# Altium footprint library con-amp-micromatch.PCBLIB: 9 footprints
Each footprint in its own frame and in the unit in brackets; x right, y up, seen from the top. Pads: shape width x height; smd on the part's side, far side on the other; paste and mask are expansions set on the pad; w line width, h text height; cw(c..) or ccw(c..) is an arc to the next point about the centre after c.
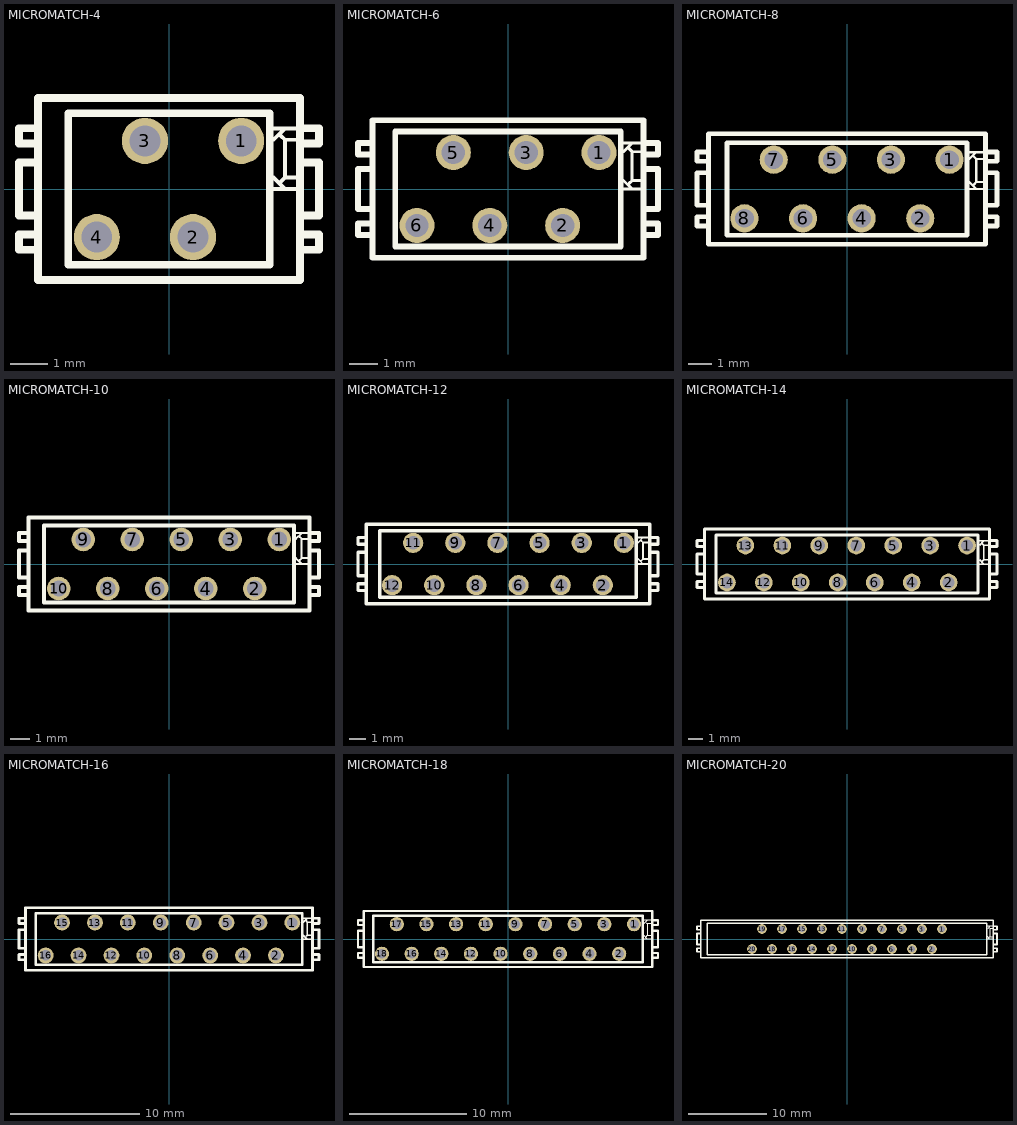
[diagram p0: the footprints below, top view; thin cyan lines are the x and y axes]

## MICROMATCH-4 [mil]
pads (4):
  round 48 hole 32: 1(75,50) 2(25,-50) 3(-25,50) 4(-75,-50)
Top Overlay:
  lines w4: 108.66,0 120.47,0 ; 108.66,11.81 120.47,0 ; 108.66,51.18 120.47,62.99 ; 108.66,62.99 120.47,62.99 ; 116.54,7.87 120.47,11.81 ; 116.54,55.12 120.47,51.18 ; 132.28,0 120.47,0 ; 132.28,11.81 120.47,11.81 ; 132.28,51.18 120.47,51.18 ; 132.28,62.99 120.47,62.99 ; 120.47,11.81 120.47,51.18
  lines w8: -140.16,-62.99 -155.91,-62.99 -155.91,-47.24 -140.16,-47.24 ; -140.16,-27.56 -155.91,-27.56 -155.91,27.56 -140.16,27.56 ; -140.16,47.24 -155.91,47.24 -155.91,62.99 -140.16,62.99 ; 140.16,-62.99 155.91,-62.99 155.91,-47.24 140.16,-47.24 ; 140.16,-27.56 155.91,-27.56 155.91,27.56 140.16,27.56 ; 140.16,47.24 155.91,47.24 155.91,62.99 140.16,62.99 ; -136.22,-94.49 -136.22,94.49 136.22,94.49 136.22,-94.49 -136.22,-94.49 ; -104.72,-78.74 -104.72,78.74 104.72,78.74 104.72,-78.74 -104.72,-78.74

## MICROMATCH-6 [mil]
pads (6):
  round 48 hole 32: 1(125,50) 2(75,-50) 3(25,50) 4(-25,-50) 5(-75,50) 6(-125,-50)
Top Overlay:
  lines w4: 158.66,0 170.47,0 ; 158.66,11.81 170.47,0 ; 158.66,51.18 170.47,62.99 ; 158.66,62.99 170.47,62.99 ; 166.54,7.87 170.47,11.81 ; 166.54,55.12 170.47,51.18 ; 182.28,0 170.47,0 ; 182.28,11.81 170.47,11.81 ; 182.28,51.18 170.47,51.18 ; 182.28,62.99 170.47,62.99 ; 170.47,11.81 170.47,51.18
  lines w8: -190.16,-62.99 -205.91,-62.99 -205.91,-47.24 -190.16,-47.24 ; -190.16,-27.56 -205.91,-27.56 -205.91,27.56 -190.16,27.56 ; -190.16,47.24 -205.91,47.24 -205.91,62.99 -190.16,62.99 ; 190.16,-62.99 205.91,-62.99 205.91,-47.24 190.16,-47.24 ; 190.16,-27.56 205.91,-27.56 205.91,27.56 190.16,27.56 ; 190.16,47.24 205.91,47.24 205.91,62.99 190.16,62.99 ; -186.22,-94.49 -186.22,94.49 186.22,94.49 186.22,-94.49 -186.22,-94.49 ; -154.72,-78.74 -154.72,78.74 154.72,78.74 154.72,-78.74 -154.72,-78.74

## MICROMATCH-8 [mil]
pads (8):
  round 48 hole 32: 1(175,50) 2(125,-50) 3(75,50) 4(25,-50) 5(-25,50) 6(-75,-50) 7(-125,50) 8(-175,-50)
Top Overlay:
  lines w4: 208.66,0 220.47,0 ; 208.66,11.81 220.47,0 ; 208.66,51.18 220.47,62.99 ; 208.66,62.99 220.47,62.99 ; 216.54,7.87 220.47,11.81 ; 216.54,55.12 220.47,51.18 ; 232.28,0 220.47,0 ; 232.28,11.81 220.47,11.81 ; 232.28,51.18 220.47,51.18 ; 232.28,62.99 220.47,62.99 ; 220.47,11.81 220.47,51.18
  lines w8: -240.16,-62.99 -255.91,-62.99 -255.91,-47.24 -240.16,-47.24 ; -240.16,-27.56 -255.91,-27.56 -255.91,27.56 -240.16,27.56 ; -240.16,47.24 -255.91,47.24 -255.91,62.99 -240.16,62.99 ; 240.16,-62.99 255.91,-62.99 255.91,-47.24 240.16,-47.24 ; 240.16,-27.56 255.91,-27.56 255.91,27.56 240.16,27.56 ; 240.16,47.24 255.91,47.24 255.91,62.99 240.16,62.99 ; -236.22,-94.49 -236.22,94.49 236.22,94.49 236.22,-94.49 -236.22,-94.49 ; -204.72,-78.74 -204.72,78.74 204.72,78.74 204.72,-78.74 -204.72,-78.74

## MICROMATCH-10 [mil]
pads (10):
  round 48 hole 32: 1(225,50) 2(175,-50) 3(125,50) 4(75,-50) 5(25,50) 6(-25,-50) 7(-75,50) 8(-125,-50) 9(-175,50) 10(-225,-50)
Top Overlay:
  lines w4: 258.66,0 270.47,0 ; 258.66,11.81 270.47,0 ; 258.66,51.18 270.47,62.99 ; 258.66,62.99 270.47,62.99 ; 266.54,7.87 270.47,11.81 ; 266.54,55.12 270.47,51.18 ; 282.28,0 270.47,0 ; 282.28,11.81 270.47,11.81 ; 282.28,51.18 270.47,51.18 ; 282.28,62.99 270.47,62.99 ; 270.47,11.81 270.47,51.18
  lines w8: -290.16,-62.99 -305.91,-62.99 -305.91,-47.24 -290.16,-47.24 ; -290.16,-27.56 -305.91,-27.56 -305.91,27.56 -290.16,27.56 ; -290.16,47.24 -305.91,47.24 -305.91,62.99 -290.16,62.99 ; 290.16,-62.99 305.91,-62.99 305.91,-47.24 290.16,-47.24 ; 290.16,-27.56 305.91,-27.56 305.91,27.56 290.16,27.56 ; 290.16,47.24 305.91,47.24 305.91,62.99 290.16,62.99 ; -286.22,-94.49 -286.22,94.49 286.22,94.49 286.22,-94.49 -286.22,-94.49 ; -254.72,-78.74 -254.72,78.74 254.72,78.74 254.72,-78.74 -254.72,-78.74

## MICROMATCH-12 [mil]
pads (12):
  round 48 hole 32: 1(275,50) 2(225,-50) 3(175,50) 4(125,-50) 5(75,50) 6(25,-50) 7(-25,50) 8(-75,-50) 9(-125,50) 10(-175,-50) 11(-225,50) 12(-275,-50)
Top Overlay:
  lines w4: 308.66,0 320.47,0 ; 308.66,11.81 320.47,0 ; 308.66,51.18 320.47,62.99 ; 308.66,62.99 320.47,62.99 ; 316.54,7.87 320.47,11.81 ; 316.54,55.12 320.47,51.18 ; 332.28,0 320.47,0 ; 332.28,11.81 320.47,11.81 ; 332.28,51.18 320.47,51.18 ; 332.28,62.99 320.47,62.99 ; 320.47,11.81 320.47,51.18
  lines w8: -340.16,-62.99 -355.91,-62.99 -355.91,-47.24 -340.16,-47.24 ; -340.16,-27.56 -355.91,-27.56 -355.91,27.56 -340.16,27.56 ; -340.16,47.24 -355.91,47.24 -355.91,62.99 -340.16,62.99 ; 340.16,-62.99 355.91,-62.99 355.91,-47.24 340.16,-47.24 ; 340.16,-27.56 355.91,-27.56 355.91,27.56 340.16,27.56 ; 340.16,47.24 355.91,47.24 355.91,62.99 340.16,62.99 ; -336.22,-94.49 -336.22,94.49 336.22,94.49 336.22,-94.49 -336.22,-94.49 ; -304.72,-78.74 -304.72,78.74 304.72,78.74 304.72,-78.74 -304.72,-78.74

## MICROMATCH-14 [mil]
pads (14):
  round 48 hole 32: 1(325,50) 2(275,-50) 3(225,50) 4(175,-50) 5(125,50) 6(75,-50) 7(25,50) 8(-25,-50) 9(-75,50) 10(-125,-50) 11(-175,50) 12(-225,-50) 13(-275,50) 14(-325,-50)
Top Overlay:
  lines w4: 358.66,0 370.47,0 ; 358.66,11.81 370.47,0 ; 358.66,51.18 370.47,62.99 ; 358.66,62.99 370.47,62.99 ; 366.54,7.87 370.47,11.81 ; 366.54,55.12 370.47,51.18 ; 382.28,0 370.47,0 ; 382.28,11.81 370.47,11.81 ; 382.28,51.18 370.47,51.18 ; 382.28,62.99 370.47,62.99 ; 370.47,11.81 370.47,51.18
  lines w8: -390.16,-62.99 -405.91,-62.99 -405.91,-47.24 -390.16,-47.24 ; -390.16,-27.56 -405.91,-27.56 -405.91,27.56 -390.16,27.56 ; -390.16,47.24 -405.91,47.24 -405.91,62.99 -390.16,62.99 ; 390.16,-62.99 405.91,-62.99 405.91,-47.24 390.16,-47.24 ; 390.16,-27.56 405.91,-27.56 405.91,27.56 390.16,27.56 ; 390.16,47.24 405.91,47.24 405.91,62.99 390.16,62.99 ; -386.22,-94.49 -386.22,94.49 386.22,94.49 386.22,-94.49 -386.22,-94.49 ; -354.72,-78.74 -354.72,78.74 354.72,78.74 354.72,-78.74 -354.72,-78.74

## MICROMATCH-16 [mil]
pads (16):
  round 48 hole 32: 1(375,50) 2(325,-50) 3(275,50) 4(225,-50) 5(175,50) 6(125,-50) 7(75,50) 8(25,-50) 9(-25,50) 10(-75,-50) 11(-125,50) 12(-175,-50) 13(-225,50) 14(-275,-50) 15(-325,50) 16(-375,-50)
Top Overlay:
  lines w4: 408.66,0 420.47,0 ; 408.66,11.81 420.47,0 ; 408.66,51.18 420.47,62.99 ; 408.66,62.99 420.47,62.99 ; 416.54,7.87 420.47,11.81 ; 416.54,55.12 420.47,51.18 ; 432.28,0 420.47,0 ; 432.28,11.81 420.47,11.81 ; 432.28,51.18 420.47,51.18 ; 432.28,62.99 420.47,62.99 ; 420.47,11.81 420.47,51.18
  lines w8: -440.16,-62.99 -455.91,-62.99 -455.91,-47.24 -440.16,-47.24 ; -440.16,-27.56 -455.91,-27.56 -455.91,27.56 -440.16,27.56 ; -440.16,47.24 -455.91,47.24 -455.91,62.99 -440.16,62.99 ; 440.16,-62.99 455.91,-62.99 455.91,-47.24 440.16,-47.24 ; 440.16,-27.56 455.91,-27.56 455.91,27.56 440.16,27.56 ; 440.16,47.24 455.91,47.24 455.91,62.99 440.16,62.99 ; -436.22,-94.49 -436.22,94.49 436.22,94.49 436.22,-94.49 -436.22,-94.49 ; -404.72,-78.74 -404.72,78.74 404.72,78.74 404.72,-78.74 -404.72,-78.74

## MICROMATCH-18 [mil]
pads (18):
  round 48 hole 32: 1(425,50) 2(375,-50) 3(325,50) 4(275,-50) 5(225,50) 6(175,-50) 7(125,50) 8(75,-50) 9(25,50) 10(-25,-50) 11(-75,50) 12(-125,-50) 13(-175,50) 14(-225,-50) 15(-275,50) 16(-325,-50) 17(-375,50) 18(-425,-50)
Top Overlay:
  lines w4: 458.66,0 470.47,0 ; 458.66,11.81 470.47,0 ; 458.66,51.18 470.47,62.99 ; 458.66,62.99 470.47,62.99 ; 466.54,7.87 470.47,11.81 ; 466.54,55.12 470.47,51.18 ; 482.28,0 470.47,0 ; 482.28,11.81 470.47,11.81 ; 482.28,51.18 470.47,51.18 ; 482.28,62.99 470.47,62.99 ; 470.47,11.81 470.47,51.18
  lines w8: -490.16,-62.99 -505.91,-62.99 -505.91,-47.24 -490.16,-47.24 ; -490.16,-27.56 -505.91,-27.56 -505.91,27.56 -490.16,27.56 ; -490.16,47.24 -505.91,47.24 -505.91,62.99 -490.16,62.99 ; 490.16,-62.99 505.91,-62.99 505.91,-47.24 490.16,-47.24 ; 490.16,-27.56 505.91,-27.56 505.91,27.56 490.16,27.56 ; 490.16,47.24 505.91,47.24 505.91,62.99 490.16,62.99 ; -486.22,-94.49 -486.22,94.49 486.22,94.49 486.22,-94.49 -486.22,-94.49 ; -454.72,-78.74 -454.72,78.74 454.72,78.74 454.72,-78.74 -454.72,-78.74

## MICROMATCH-20 [mil]
pads (20):
  round 48 hole 32: 1(475,50) 2(425,-50) 3(375,50) 4(325,-50) 5(275,50) 6(225,-50) 7(175,50) 8(125,-50) 9(75,50) 10(25,-50) 11(-25,50) 12(-75,-50) 13(-125,50) 14(-175,-50) 15(-225,50) 16(-275,-50) 17(-325,50) 18(-375,-50) 19(-425,50) 20(-475,-50)
Top Overlay:
  lines w4: 702.76,0 714.57,0 ; 702.76,11.81 714.57,0 ; 702.76,51.18 714.57,62.99 ; 702.76,62.99 714.57,62.99 ; 710.63,7.87 714.57,11.81 ; 710.63,55.12 714.57,51.18 ; 726.38,0 714.57,0 ; 726.38,11.81 714.57,11.81 ; 726.38,51.18 714.57,51.18 ; 726.38,62.99 714.57,62.99 ; 714.57,11.81 714.57,51.18
  lines w8: -734.25,-62.99 -750,-62.99 -750,-47.24 -734.25,-47.24 ; -734.25,-27.56 -750,-27.56 -750,27.56 -734.25,27.56 ; -734.25,47.24 -750,47.24 -750,62.99 -734.25,62.99 ; -242.13,-94.49 242.13,-94.49 ; -242.13,94.49 242.13,94.49 ; -210.63,-78.74 210.63,-78.74 ; -210.63,78.74 210.63,78.74 ; 734.25,-62.99 750,-62.99 750,-47.24 734.25,-47.24 ; 734.25,-27.56 750,-27.56 750,27.56 734.25,27.56 ; 734.25,47.24 750,47.24 750,62.99 734.25,62.99 ; 210.63,-78.74 698.82,-78.74 698.82,78.74 210.63,78.74 ; 210.63,-78.74 -698.82,-78.74 -698.82,78.74 210.63,78.74 ; 242.13,-94.49 730.32,-94.49 730.32,94.49 242.13,94.49 ; 242.13,-94.49 -730.32,-94.49 -730.32,94.49 242.13,94.49